# EAGLE library part 88880-044 (library 88880-044)
Check availability <https://pricing.snapeda.com/parts/88880-044/Amphenol%20ICC%20%28FCI%29/view-part?ref=eda>
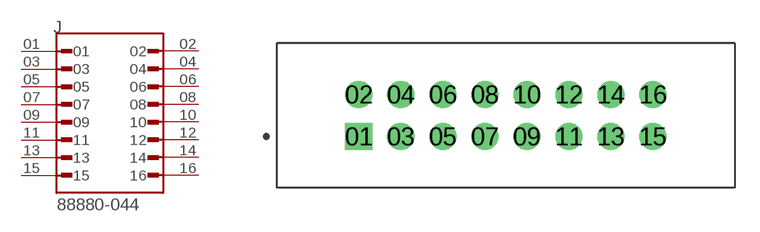
[diagram p0: symbol with the pads of AMPHENOL_88880-044; footprint AMPHENOL_88880-044]

Designator prefix J

## 88880-044 (Availability: In Stock; Description: Quickie® IDC Cable-to-Board Connector System, Shrouded Slim Line Header, Vertical, Through Hole, Double Row, 16 Positions, 2.54mm (0.100in) Pitch.; MF: Amphenol ICC (FCI); MP: 88880-044; Package: None; Price: None; Purchase-URL: https://pricing.snapeda.com/search?q=88880-044&ref=eda)  [AMPHENOL_88880-044]
01  01  pas
02  02  pas
03  03  pas
04  04  pas
05  05  pas
06  06  pas
07  07  pas
08  08  pas
09  09  pas
10  10  pas
11  11  pas
12  12  pas
13  13  pas
14  14  pas
15  15  pas
16  16  pas

## Footprint AMPHENOL_88880-044 (pad centres in mm)
drill 1.1 pad 1.65 square: 01 -8.89,-1.27
drill 1.1 pad 1.65: 02 -8.89,1.27; 03 -6.35,-1.27; 04 -6.35,1.27; 05 -3.81,-1.27; 06 -3.81,1.27; 07 -1.27,-1.27; 08 -1.27,1.27; 09 1.27,-1.27; 10 1.27,1.27; 11 3.81,-1.27; 12 3.81,1.27; 13 6.35,-1.27; 14 6.35,1.27; 15 8.89,-1.27; 16 8.89,1.27